# Altium schematic symbol library CN HDR 14POS.SchLib: 1 symbol
Pins are listed as number, name and electrical type; pins without a type are passive.

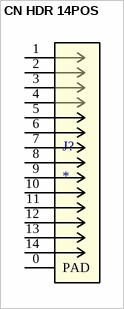
[diagram p0: symbol CN HDR 14POS]

## CN HDR 14POS
designator J?
Connector Header 14 Position
footprint CN HDR 14POS 1.5MM SMD (Connector Header Surface Mount 14 position 0.059" (1.50mm))
pins: 0 PAD, 1, 2, 3, 4, 5, 6, 7, 8, 9, 10, 11, 12, 13, 14